# Altium schematic symbol library 自建库.SCHLIB: 110 symbols
Pins are listed as number, name and electrical type; pins without a type are passive.

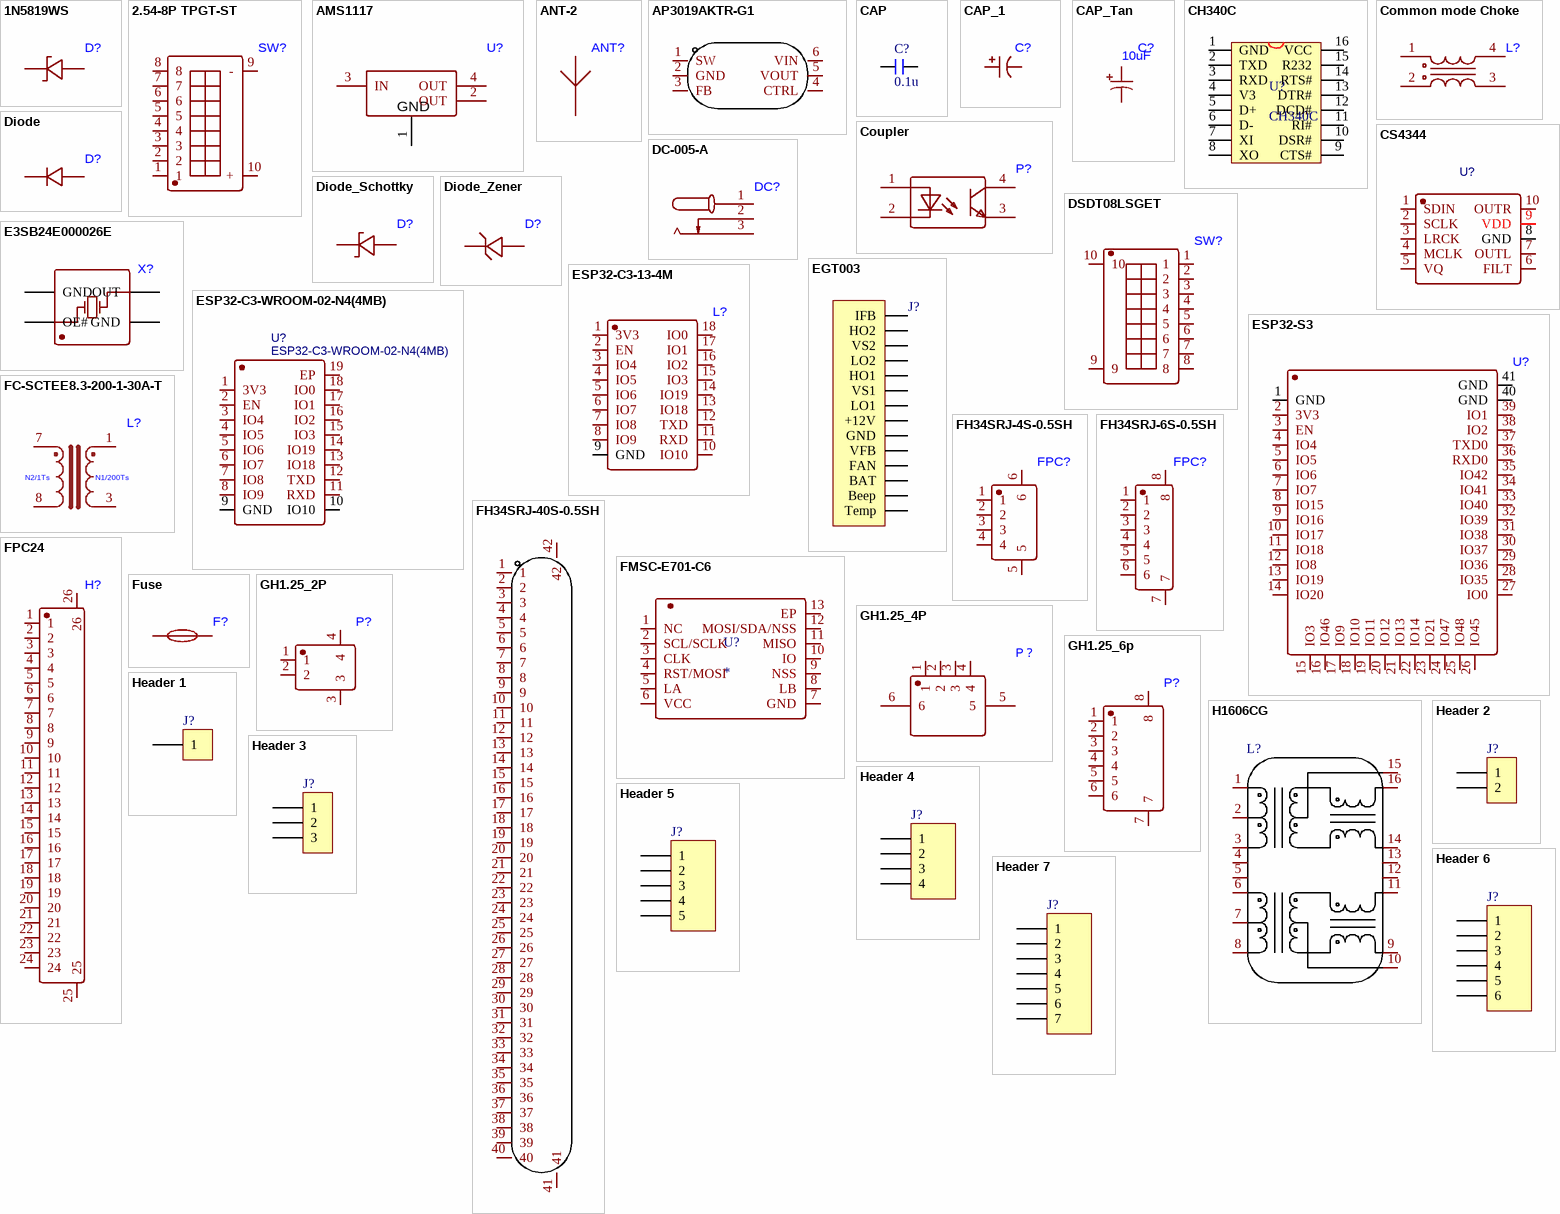
[diagram p0: symbols 1N5819WS to Header 7]

## 1N5819WS
designator D?
肖特基二极管; Part_number: 1N5819WS; 短线: 负极; Brand: *
footprint SOD-323_L1.8-W1.3-LS2.5-RD
footprint DO-214AC_L4.3-W2.7-LS5.2-RD
footprint SOD-123_L2.7-W1.6-LS3.7-RD-1
pins: 1 C, 2 A

## 2.54-8P TPGT-ST
designator SW?
8位三态拨码开关，C6709513; Part_number: 2.54-8P TPGT-ST; Brand: *
footprint SW-SMD_10P-L21.8-W7.0-P2.54-LS9.8
pins: 1, 2, 3, 4, 5, 6, 7, 8, 9 -, 10 +

## AMS1117
designator U?
稳压管; Part_number: *; Brand: *
footprint SOT-223-3_L6.5-W3.4-P2.30-LS7.0-BR
pins: 1 GND, 2 OUT, 3 IN, 4 OUT

## ANT-2
designator ANT?
陶瓷贴片天线; Part_number: *; Brand: *
footprint FP-ANT016008LCS2442MA2_SMT_ANT-0
footprint UHF-Ant (超高频天线)
pins: 1, 2

## AP3019AKTR-G1
designator U?  (value not drawn)
LED驱动; Part_number: *; Brand: *
3D model SOT-23-6_L2.9-W1.6-H1.5-LS2.8-P0.95
footprint SOT-23-6_L2.9-W1.6-P0.95-LS2.8-BR
pins: 1 SW, 2 GND, 3 FB, 4 CTRL, 5 VOUT, 6 VIN

## CAP
designator C?, comment 0.1u
贴片电容/安规电容; Part_number: *; Brand: *
footprint C0201
footprint C0402
footprint C0603
footprint C0805
footprint C1206
footprint C1210 (3225)
footprint C2220 (5750)
footprint CAP-TH_L18.0-W8.5-P15.00-D0.8
pins: 1, 2

## CAP_1
designator C?
固态电容/电解电容; Part_number: *
footprint CAP-TH_BD8.0-P3.50-D0.6-FD
footprint CAP-TH_BD6.3-P16-D1.2 (06A6,560u)
footprint CAP-TH_BD10.0-P5.00-D0.6-FD
footprint CAP-SMD_BD6.3-L6.6-W6.6-FD
footprint CAP-TH_BD22.0-P10.00-D2.3-FD
footprint CAP-TH_BD18.0-P7.50-D0.8-FD
pins: 1, 2

## CAP_Tan
designator C?, comment 10uF
钽电容; 10uF-0603: C962635; Part_number: *
footprint Tan0603 (C962635-1608)
pins: 1, 2

## CH340C
designator U?
UART; Part_number: *
footprint SO-16
pins: 1 GND, 2 TXD, 3 RXD, 4 V3, 5 D+, 6 D-, 7 XI, 8 XO, 9 CTS#, 10 DSR#, 11 RI#, 12 DCD#, 13 DTR#, 14 RTS#, 15 R232, 16 VCC

## Common mode Choke
designator L?
共模滤波器; Part_number: ACM12V-701-2PL-TL00
footprint FILTER-SMD_4P-L7.0-W6.0-TL_ACM70V
footprint CMSMD (744237701焊盘)
footprint FILTER-SMD_4P-L12.0-W11.0-TL (共模滤波器)
footprint FILTER-TH_4P-L17.0-W12.0-P7.00-D0.6-S8.00-1
pins: 1, 2, 3, 4

## Coupler
designator P?
光耦; Part_number: *; Brand: *
footprint SOP-4_L6.5-W4.6-P2.54-LS10.2-TL
pins: 1, 2, 3, 4

## CS4344
designator U?
CS4344/MS4344; Part_number: *
footprint TSSOP-10_L3.0-W3.0-P0.50-LS4.9-BL
pins: 1 SDIN, 2 SCLK, 3 LRCK, 4 MCLK, 5 VQ, 6 FILT, 7 OUTL, 8 GND, 9 VDD, 10 OUTR

## DC-005-A
designator DC?
DC电源座; Part_number: *
footprint DC-IN-TH_DC-5520-1
pins: 1, 2, 3

## Diode
designator D?
Diode; Part_number: *
footprint SOD-323_L1.8-W1.3-LS2.5-RD
footprint SOD-123_L2.7-W1.6-LS3.7-RD-1
footprint DO-214AC_L4.3-W2.7-LS5.2-RD
footprint TO-220-2L_L10.2-W4.6-P5.08-L
pins: 1 -, 2 +

## Diode_Schottky
designator D?
肖特基二极管; Part_number: *; Brand: *
footprint SOD-323_L1.8-W1.3-LS2.5-RD
footprint DO-214AC_L4.3-W2.7-LS5.2-RD
footprint SOD-123_L2.7-W1.6-LS3.7-RD-1
footprint SOD128
pins: 1 C, 2 A

## Diode_Zener
designator D?
稳压二极管（齐纳二极管）; Part_number: *; Brand: *
footprint SOD-323_L1.8-W1.3-LS2.5-RD
footprint SOD-123_L2.7-W1.6-LS3.7-RD-1
footprint SOD-523_L1.2-W0.8-LS1.6-BI
footprint DO-214AA_L4.4-W3.6-LS5.3-RD
pins: 1 K, 2 A

## DSDT08LSGET
designator SW?
8位三态拨码开关，C91271; Part_number: *
footprint SW-SMD_10P-L21.8-W7.0-P2.54-LS9.8
pins: 1, 2, 3, 4, 5, 6, 7, 8, 9, 10

## E3SB24E000026E
designator X?
24MHz贴片晶振，无源晶振; Part_number: *
footprint OSC-L3.2-W2.5-BL
pins: 1 OE#, 2 GND, 3 OUT, 4 GND

## EGT003
designator J?, comment HDR-1X14  (value not drawn)
Header, 14-Pin; Brand: *; Part_number: *
footprint HDR1X14 (Connector; Header; 9 Position)
footprint HDR2.54-Y-LI-14P (圆孔排母，14脚)
pins: 1 Temp, 2 Beep, 3 BAT, 4 FAN, 5 VFB, 6 GND, 7 +12V, 8 LO1, 9 VS1, 10 HO1, 11 LO2, 12 VS2, 13 HO2, 14 IFB

## ESP32-C3-13-4M
designator L?
ESP32-C3; Part_number: *
footprint ESP-C3-13-4M-SMD
pins: 1 3V3, 2 EN, 3 IO4, 4 IO5, 5 IO6, 6 IO7, 7 IO8, 8 IO9, 9 GND, 10 IO10, 11 RXD, 12 TXD, 13 IO18, 14 IO19, 15 IO3, 16 IO2, 17 IO1, 18 IO0

## ESP32-C3-WROOM-02-N4(4MB)
designator U?
Part_number: *
footprint ESP32-C3-WROOM-02-N4-4MB
pins: 1 3V3, 2 EN, 3 IO4, 4 IO5, 5 IO6, 6 IO7, 7 IO8, 8 IO9, 9 GND, 10 IO10, 11 RXD, 12 TXD, 13 IO18, 14 IO19, 15 IO3, 16 IO2, 17 IO1, 18 IO0, 19 EP

## ESP32-S3
designator U?
ESP32-S3-WROOM-1; Part_number: *
footprint ESP32-S3-WROOM-1
footprint ESP32-S3-WROOM-1U
pins: 1 GND, 2 3V3, 3 EN, 4 IO4, 5 IO5, 6 IO6, 7 IO7, 8 IO15, 9 IO16, 10 IO17, 11 IO18, 12 IO8, 13 IO19, 14 IO20, 15 IO3, 16 IO46, 17 IO9, 18 IO10, 19 IO11, 20 IO12, 21 IO13, 22 IO14, 23 IO21, 24 IO47, 25 IO48, 26 IO45, 27 IO0, 28 IO35, 29 IO36, 30 IO37, 31 IO38, 32 IO39, 33 IO40, 34 IO41, 35 IO42, 36 RXD0, 37 TXD0, 38 IO2, 39 IO1, 40 GND, 41 GND

## FC-SCTEE8.3-200-1-30A-T
designator L?
交流互感器,30A,1:200; Part_number: *; Brand: *
footprint XFMR-SMD_FC-SCTEE8.3-200-1-30A-T
pins: 1, 3, 7, 8
text: N2/1Ts; N1/200Ts

## FH34SRJ-4S-0.5SH
designator FPC?
4pin-FPC接口; Part_number: *
footprint FPC-SMD_4P_FH19C-4S-0.5SH
pins: 1, 2, 3, 4, 5, 6

## FH34SRJ-6S-0.5SH
designator FPC?
6pin-FPC接口; Part_number: *
footprint FFC-SMD_6P-P0.50_FH34SRJ-6S-0.5SH
pins: 1, 2, 3, 4, 5, 6, 7, 8

## FH34SRJ-40S-0.5SH
designator FPC?, comment 541044031  (value not drawn)
40pin-FPC接口; Part_number: *
3D model FPC-SMD_40P-P0.50_LSSJ-H2.0-40P
footprint FPC-SMD_40P-P0.50_L3.8-W22.0
pins: 1, 2, 3, 4, 5, 6, 7, 8, 9, 10, 11, 12, 13, 14, 15, 16, 17, 18, 19, 20, 21, 22, 23, 24, 25, 26, 27, 28, 29, 30, 31, 32, 33, 34, 35, 36, 37, 38, 39, 40, 41, 42

## FMSC-E701-C6
designator U?
复旦微NFC芯片; Part_number: *
footprint DFN-12_L3.0-W3.0-P0.45-BL-EP2.5
pins: 1 NC, 2 SCL/SCLK, 3 CLK, 4 RST/MOSI, 5 LA, 6 VCC, 7 GND, 8 LB, 9 NSS, 10 IO, 11 MISO, 12 MOSI/SDA/NSS, 13 EP

## FPC24
designator H?
0.5mm，24Pin; 0.5MM: 下接触; Part_number: *
footprint FPC24
pins: 1, 2, 3, 4, 5, 6, 7, 8, 9, 10, 11, 12, 13, 14, 15, 16, 17, 18, 19, 20, 21, 22, 23, 24, 25, 26

## Fuse
designator F?
一次性保险丝; Part_number: *
footprint FUSE-SMD_L10.3-W3.2
footprint FUSE-TH_L8.5-W4.0-P5.08-D0.6
pins: 1, 2

## GH1.25_2P
designator P?
GH1.25接口,2pin; Part_number: *
footprint CONN-SMD_A1257WR-S-2P
pins: 1, 2, 3, 4

## GH1.25_4P
designator P？
XH连接器2.54_4pin卧式; Part_number: *
footprint CONN-SMD_2.54-4P-WT (XH2.54_卧贴)
footprint CONN-SMD_A1257WR-S-4P (GH1.25-4pin卧贴)
footprint CONN-SMD_A1257WV-S-4P (GH1.25-4pin立贴)
pins: 1, 2, 3, 4, 5, 6

## GH1.25_6p
designator P?
GH1.25接口,6pin; Part_number: *
footprint CONN-SMD_A1257WV-S-6P
pins: 1, 2, 3, 4, 5, 6, 7, 8

## H1606CG
designator L?
网络变压器; Part_number: *
footprint SMD-16_L12.7-W7.0-P1.27-LS9.5-BL
3D model SMD-16_L12.7-W7.0-H5.7-P1.27-LS9.5-BL
pins: 1, 2, 3, 4, 5, 6, 7, 8, 9, 10, 11, 12, 13, 14, 15, 16

## Header 1
designator J?
Header, 1-Pin; Part_number: *
footprint HDR1X1 (Connector; Header; 2 Position)
signal-integrity model Connector
footprint MHDR1X1 (Connector; Header; 2 Position)
pins: 1

## Header 2
designator J?
Header, 2-Pin; Part_number: *
footprint MHDR1X2 (Connector; Header; 2 Position)
signal-integrity model Connector
footprint HDR1X2 (Connector; Header; 2 Position)
pins: 1, 2

## Header 3
designator J?
Header, 3-Pin; Part_number: *
footprint HDR1X3 (Connector; Header; 3 Position)
signal-integrity model Connector
footprint MHDR1X3 (Connector; Header; 3 Position)
pins: 1, 2, 3

## Header 4
designator J?
Header, 4-Pin; Part_number: *
footprint HDR1X4 (Connector; Header; 4 Position)
signal-integrity model Connector
footprint MHDR1X4 (Connector; Header; 4 Position)
pins: 1, 2, 3, 4

## Header 5
designator J?
Header, 5-Pin; Part_number: *
footprint HDR1X5 (Connector; Header; 5 Position)
signal-integrity model Connector
footprint MHDR1X5 (Connector; Header; 5 Position)
pins: 1, 2, 3, 4, 5

## Header 6
designator J?
Header, 6-Pin; Part_number: *
footprint HDR1X6 (Connector; Header; 6 Position)
signal-integrity model Connector
footprint MX 1.25-WS-6P (长：12.65mm，宽：4.2mm，高：3.4mm)
pins: 1, 2, 3, 4, 5, 6

## Header 7
designator J?
Header, 7-Pin; Part_number: *
footprint HDR1X7 (Connector; Header; 7 Position)
signal-integrity model Connector
pins: 1, 2, 3, 4, 5, 6, 7

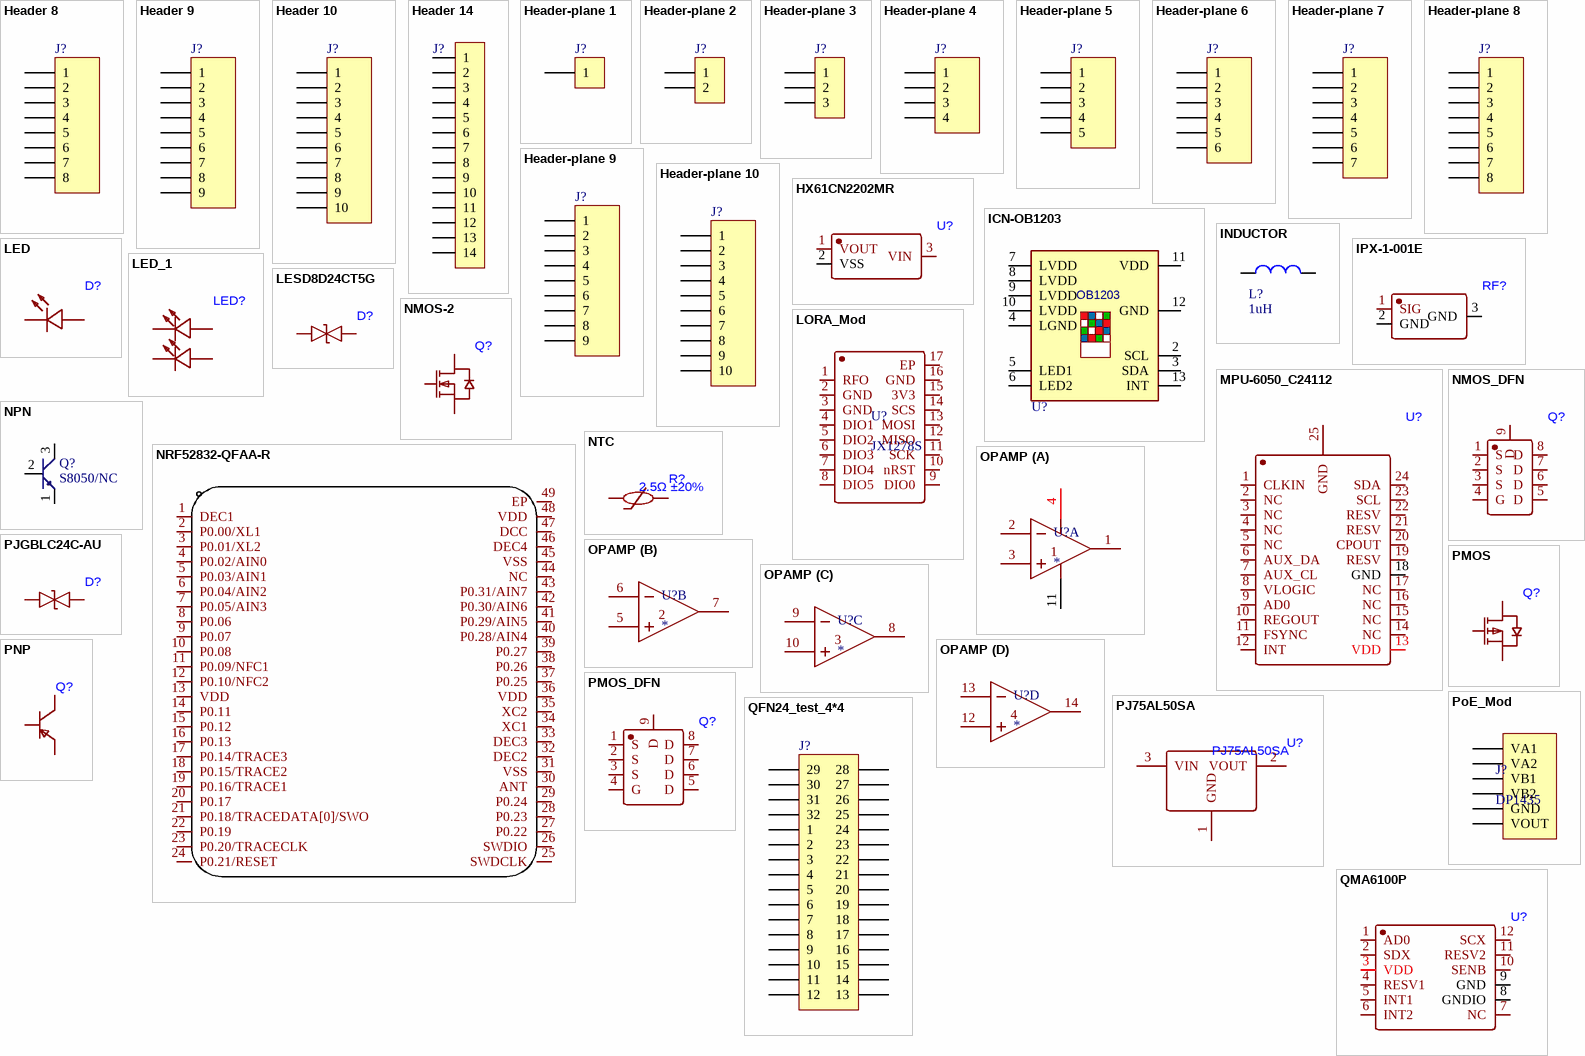
[diagram p1: symbols Header 8 to QMA6100P]

## Header 8
designator J?
Header, 8-Pin; Part_number: *
footprint HDR1X8 (Connector; Header; 8 Position)
signal-integrity model Connector
pins: 1, 2, 3, 4, 5, 6, 7, 8

## Header 9
designator J?
Header, 9-Pin; Part_number: *
footprint HDR1X9 (Connector; Header; 9 Position)
signal-integrity model Connector
pins: 1, 2, 3, 4, 5, 6, 7, 8, 9

## Header 10
designator J?
Header, 10-Pin; Part_number: *
footprint HDR1X10 (Connector; Header; 10 Position)
signal-integrity model Connector
pins: 1, 2, 3, 4, 5, 6, 7, 8, 9, 10

## Header 14
designator J?, comment HDR-1X14  (value not drawn)
Header, 14-Pin; Part_number: *
footprint HDR1X14 (Connector; Header; 9 Position)
footprint HDR2.54-Y-LI-14P (圆孔排母，14脚)
pins: 1, 2, 3, 4, 5, 6, 7, 8, 9, 10, 11, 12, 13, 14

## Header-plane 1
designator J?
触点, 1-Pin; Part_number: *
footprint HDR-plane-1X1 (Connector; Header; 2 Position)
signal-integrity model Connector
pins: 1

## Header-plane 2
designator J?
触点, 2-Pin; Part_number: *
footprint HDR-plane-1X2 (Connector; Header; 2 Position)
signal-integrity model Connector
pins: 1, 2

## Header-plane 3
designator J?
触点, 3-Pin; Part_number: *
footprint HDR-plane-1X3 (Connector; Header; 3 Position)
signal-integrity model Connector
pins: 1, 2, 3

## Header-plane 4
designator J?
触点, 4-Pin; Part_number: *
footprint HDR-plane-1X4 (Connector; Header; 4 Position)
signal-integrity model Connector
pins: 1, 2, 3, 4

## Header-plane 5
designator J?
触点, 5-Pin; Part_number: *
footprint HDR-plane-1X5 (Connector; Header; 5 Position)
signal-integrity model Connector
pins: 1, 2, 3, 4, 5

## Header-plane 6
designator J?
触点, 6-Pin; Part_number: *
footprint HDR-plane-1X6 (Connector; Header; 6 Position)
signal-integrity model Connector
pins: 1, 2, 3, 4, 5, 6

## Header-plane 7
designator J?
触点, 7-Pin; Part_number: *
footprint HDR-plane-1X7 (Connector; Header; 7 Position)
signal-integrity model Connector
pins: 1, 2, 3, 4, 5, 6, 7

## Header-plane 8
designator J?
触点, 8-Pin; Part_number: *
footprint HDR-plane-1X8 (Connector; Header; 8 Position)
signal-integrity model Connector
pins: 1, 2, 3, 4, 5, 6, 7, 8

## Header-plane 9
designator J?
触点, 9-Pin; Part_number: *
footprint HDR-plane-1X9 (Connector; Header; 9 Position)
signal-integrity model Connector
pins: 1, 2, 3, 4, 5, 6, 7, 8, 9

## Header-plane 10
designator J?
触点, 10-Pin; Part_number: *
footprint HDR-plane-1X10 (Connector; Header; 10 Position)
signal-integrity model Connector
pins: 1, 2, 3, 4, 5, 6, 7, 8, 9, 10

## HX61CN2202MR
designator U?
低电压监测器; Part_number: *
footprint SOT-23-3_L2.9-W1.3-P1.90-LS2.4-BR
pins: 1 VOUT, 2 VSS, 3 VIN

## ICN-OB1203
designator U?  (value not drawn)
OB1203; Part_number: *
footprint OB1203 14-OSIP (14-OSIP 2X4.2X1.2mm)
footprint LGA-14_L4.2-W2.0-P0.50-TL
footprint OB1203 14-OSIP - duplicate (14-OSIP 2X4.2X1.2mm)
pins: 2 SCL, 3 SDA, 4 LGND, 5 LED1, 6 LED2, 7 LVDD, 8 LVDD, 9 LVDD, 10 LVDD, 11 VDD, 12 GND, 13 INT

## INDUCTOR
designator L?, comment 1uH
电感; 150uH-0806: C222624; 4.7uH-0603: C494717; 47uH-0603: C223165; Part_number: *
footprint L0402 (1005)
footprint L0806
footprint L0805 (2012)
footprint L1206 (3216)
footprint L0603 (C494717-1608)
footprint IND-SMD_L3.0-W3.0
footprint IND-SMD_L4.0-W4.0
footprint IND-SMD_L11.5-W10.0_FXL1040
footprint IND-SMD_L7.1-W6.6
footprint IND-SMD_L13.45-W12.6
footprint L1008
footprint IND-TH_BD10.5-P5.00-D0.6
pins: 1, 2

## IPX-1-001E
designator RF?
IPX天线座; Part_number: *
footprint IPEX-SMD_BWIPX-1-001E
pins: 1 SIG, 2 GND, 3 GND

## LED
designator D?
发光二极管（单色）; Part_number: *
footprint LED0402
footprint LED0603
footprint LED0805
footprint LED1206
pins: 1 K, 2 A

## LED_1
designator LED?
双色LED; Part_number: *
footprint LED4P-L1.6-W1.5-BR-1
pins: 1 A, 2 C, 3 C, 4 A

## LESD8D24CT5G
designator D?
双向ESD保护管，24V TVS
footprint SOD-523_L1.2-W0.8-LS1.6-BI
footprint SOD-882_L1.0-W0.6-BI
footprint SOD-323_L1.8-W1.3-LS2.5-RD
pins: 1, 2

## LORA_Mod
designator U?, comment JX1278S
LORA模组; Part_number: *
footprint LORA_MOD (Lora模块)
pins: 1 RFO, 2 GND, 3 GND, 4 DIO1, 5 DIO2, 6 DIO3, 7 DIO4, 8 DIO5, 9 DIO0, 10 nRST, 11 SCK, 12 MISO, 13 MOSI, 14 SCS, 15 3V3, 16 GND, 17 EP

## MPU-6050_C24112
designator U?
MPU-6050加速度传感器; Part_number: *
footprint QFN-24_L4.0-W4.0-P0.50-BL-EP2.7
pins: 1 CLKIN, 2 NC, 3 NC, 4 NC, 5 NC, 6 AUX_DA, 7 AUX_CL, 8 VLOGIC, 9 AD0, 10 REGOUT, 11 FSYNC, 12 INT, 13 VDD, 14 NC, 15 NC, 16 NC, 17 NC, 18 GND, 19 RESV, 20 CPOUT, 21 RESV, 22 RESV, 23 SCL, 24 SDA, 25 GND

## NMOS-2
designator Q?
NMOS; Part_number: *
footprint SOT-23-3_L2.9-W1.3-P1.90-LS2.4-BR
footprint SOT-523_L1.6-W0.8-P1.00-LS1.6-BR
footprint SOT-323_L2.0-W1.3-P1.30-LS2.1-BR
footprint TO-263-2_L10.2-W8.9-P5.08-LS15.0-BR-1
footprint TO-247AC-3_L15.8-W5.0-P5.46-L
pins: 1 G, 2 S, 3 D

## NMOS_DFN
designator Q?
NMOS,30V 30A,23W; Part_number: *
footprint DFN-8_L3.0-W3.0-P0.65-BL
footprint PDFN3.3X3.3-8_L3.1-W3.2-P0.65-LS3.4-BL
pins: 1 S, 2 S, 3 S, 4 G, 5 D, 6 D, 7 D, 8 D, 9 D

## NPN
designator Q?, comment S8050/NC
三极管NPN; Part_number: *
footprint SOT-23-3_L2.9-W1.3-P1.90-LS2.4-BR
pins: 1 E, 2 B, 3 C

## NRF52832-QFAA-R
designator U?  (value not drawn)
蓝牙模块; Part_number: *
footprint QFN-48_L6.0-W6.0-P0.40-TL-EP4.6
3D model QFN-48_L6.0-W6.0-H0.9-P0.40
pins: 1 DEC1, 2 P0.00/XL1, 3 P0.01/XL2, 4 P0.02/AIN0, 5 P0.03/AIN1, 6 P0.04/AIN2, 7 P0.05/AIN3, 8 P0.06, 9 P0.07, 10 P0.08, 11 P0.09/NFC1, 12 P0.10/NFC2, 13 VDD, 14 P0.11, 15 P0.12, 16 P0.13, 17 P0.14/TRACE3, 18 P0.15/TRACE2, 19 P0.16/TRACE1, 20 P0.17, 21 P0.18/TRACEDATA[0]/SWO, 22 P0.19, 23 P0.20/TRACECLK, 24 P0.21/RESET, 25 SWDCLK, 26 SWDIO, 27 P0.22, 28 P0.23, 29 P0.24, 30 ANT, 31 VSS, 32 DEC2, 33 DEC3, 34 XC1, 35 XC2, 36 VDD, 37 P0.25, 38 P0.26, 39 P0.27, 40 P0.28/AIN4, 41 P0.29/AIN5, 42 P0.30/AIN6, 43 P0.31/AIN7, 44 NC, 45 VSS, 46 DEC4, 47 DCC, 48 VDD, 49 EP

## NTC
designator R?, comment 2.5Ω ±20%
NTC热敏电阻; Part_number: *; Brand: *
footprint RES-TH_L12.5-W5.1-P7.50-D1.2-S2.20
pins: 1, 2

## OPAMP
designator U?
运放; Part_number: *; Brand: *
footprint SOIC-14_L8.7-W3.9-P1.27-LS6.0-BL
part A pins: 1 OUT1, 2 IN1-, 3 IN1+, 4 VCC, 11 GND
part B pins: 5 IN2+, 6 IN2-, 7 OUT2
part C pins: 8 OUT3, 9 IN3-, 10 IN3+
part D pins: 12 IN4+, 13 IN4-, 14 OUT4

## PJ75AL50SA
designator U?
5V,LDO,Vin36V,Vout5V,150mA; Part_number: *
footprint SOT-23-3_L2.9-W1.3-P1.90-LS2.4-BR
pins: 1 GND, 2 VOUT, 3 VIN

## PJGBLC24C-AU
designator D?
双向ESD保护管，24V TVS
footprint SOD-323_L1.8-W1.3-LS2.5-RD
pins: 1, 2

## PMOS
designator Q?
PMOS; Part_number: *
footprint SOT-23-3_L2.9-W1.3-P1.90-LS2.4-BR
pins: 1 G, 2 S, 3 D

## PMOS_DFN
designator Q?
PMOS_DFN-8; Part_number: *
footprint PDFN3.3X3.3-8_L3.1-W3.2-P0.65-LS3.4-BL
pins: 1 S, 2 S, 3 S, 4 G, 5 D, 6 D, 7 D, 8 D, 9 D

## PNP
designator Q?
PNP三极管; Part_number: *
footprint SOT-23-3_L2.9-W1.3-P1.90-LS2.4-BR
pins: 1 B, 2 E, 3 C

## PoE_Mod
designator J?, comment DP1435
PoE模组; Part_number: *
footprint PoE_Mod (PoE模块)
pins: 1 VA1, 2 VA2, 3 VB1, 4 VB2, 5 GND, 6 VOUT

## QFN24_test_4*4
designator J?
双排直插，测试底座（带板）; Part_number: *
footprint CNV_QFN24_DIP (Connector; Header; 10 Position)
footprint CNV_QFN24_DIP - duplicate (Connector; Header; 10 Position)
pins: 1, 2, 3, 4, 5, 6, 7, 8, 9, 10, 11, 12, 13, 14, 15, 16, 17, 18, 19, 20, 21, 22, 23, 24, 25, 26, 27, 28, 29, 30, 31, 32

## QMA6100P
designator U?
C2887190,陀螺仪; Part_number: *
footprint LGA-12_L2.0-W2.0-P0.50-TL_QMA6100
pins: 1 AD0, 2 SDX, 3 VDD, 4 RESV1, 5 INT1, 6 INT2, 7 NC, 8 GNDIO, 9 GND, 10 SENB, 11 RESV2, 12 SCX

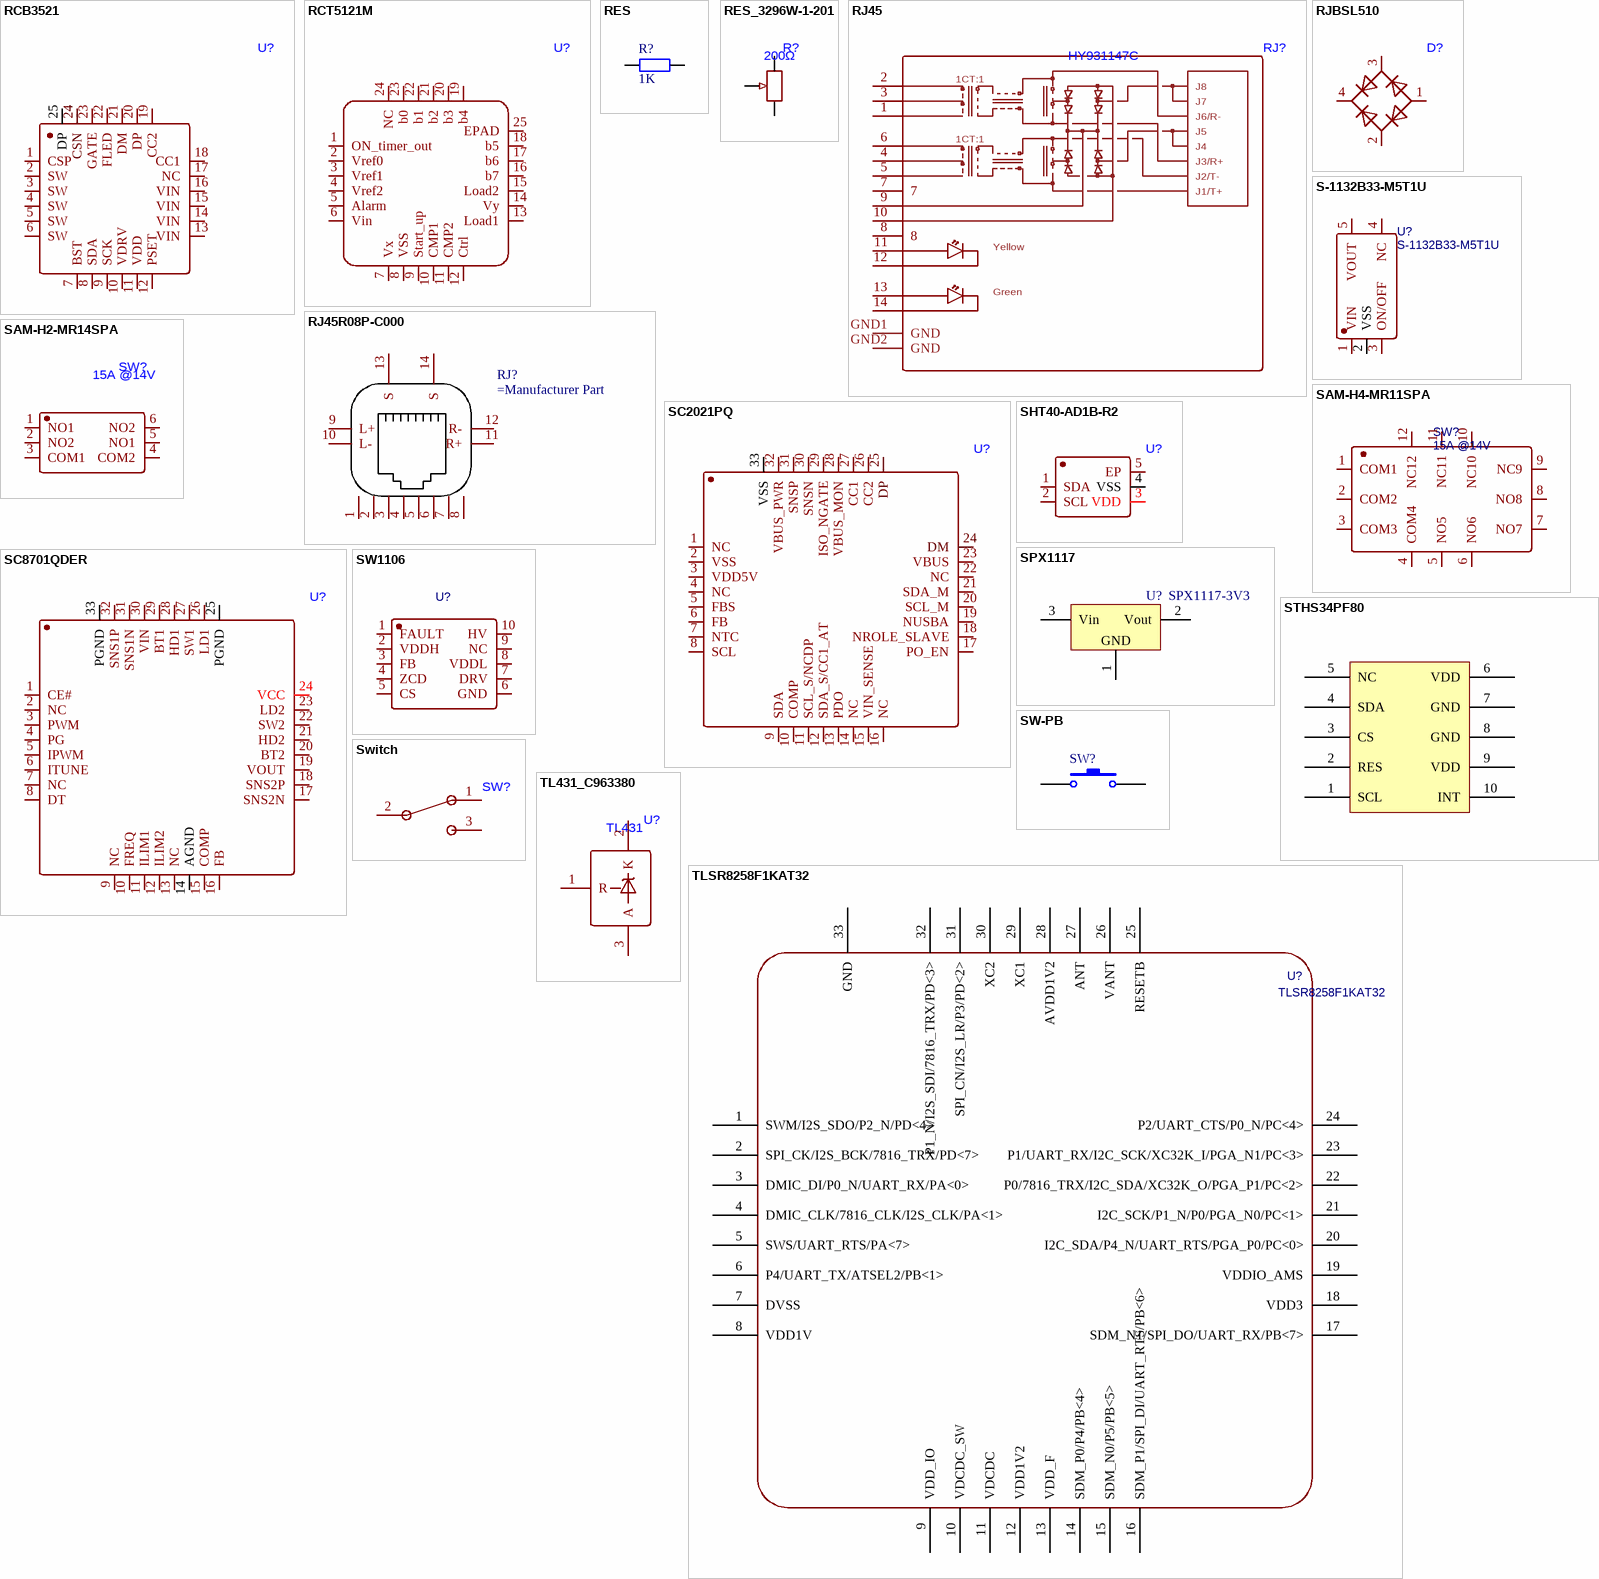
[diagram p2: symbols RCB3521 to TLSR8258F1KAT32]

## RCB3521
designator U?
协议芯片，内部同步降压变换器，RCB3521; Part_number: RCB3521
footprint QFN-24_L4.0-W4.0-P0.50-BL-EP2.7
pins: 1 CSP, 2 SW, 3 SW, 4 SW, 5 SW, 6 SW, 7 BST, 8 SDA, 9 SCK, 10 VDRV, 11 VDD, 12 PSET, 13 VIN, 14 VIN, 15 VIN, 16 VIN, 17 NC, 18 CC1, 19 CC2, 20 DP, 21 DM, 22 FLED, 23 GATE, 24 CSN, 25 DP

## RCT5121M
designator U?
越禾自研芯片; Part_number: *
footprint QFN-24_L4.0-W4.0-P0.50-BL-EP2.7
pins: 1 ON_timer_out, 2 Vref0, 3 Vref1, 4 Vref2, 5 Alarm, 6 Vin, 7 Vx, 8 VSS, 9 Start_up, 10 CMP1, 11 CMP2, 12 Ctrl, 13 Load1, 14 Vy, 15 Load2, 16 b7, 17 b6, 18 b5, 19 b4, 20 b3, 21 b2, 22 b1, 23 b0, 24 NC, 25 EPAD

## RES
designator R?, comment 1K
贴片电阻; Part_number: *
footprint R0201
footprint R0402
footprint R0603
footprint R0805
footprint R1206
pins: 1, 2

## RES_3296W-1-201
designator R?, comment 200Ω
滑动变阻器，3296W; Part_number: *
footprint RES-ADJ-TH_3P-L9.5-W4.9-P2.50-L_3296W
pins: 1, 2, 3

## RJ45
designator RJ?, comment HY931147C
RJ45——PoE; Part_number: *
footprint RJ45-TH_HY931147C
pins: 1, 2, 3, 4, 5, 6, 7, 8, 9, 10, 11, 12, 13, 14, GND1 GND, GND2 GND
text: 1CT:1; J8; J7; J6/R-; J5; J4; J3/R+; J2/T-; J1/T+; Yellow; Green

## RJ45R08P-C000
designator RJ?
连接器类型:RJ插座;USOC代码:RJ45;端口数量:1;等级:-;安装方式:弯插;屏蔽:有;LED:有;工作温度范围:0℃~+70℃;; Part_number: *
footprint RJ45-TH_R-RJ45R08P-C000
3D model RJ45-TH_L16.3-W15.8-H13.1
pins: 1, 2, 3, 4, 5, 6, 7, 8, 9 L+, 10 L-, 11 R+, 12 R-, 13 S, 14 S

## RJBSL510
designator D?
整流桥，1KV，5A; Part_number: RJBSL510; Brand: CJ(江苏长电/长晶)
footprint DIO-BG-SMD_4P-L4.9-W4.0-P2.54-LS7.0-BR
pins: 1 -, 2 C1, 3 C2, 4 +

## S-1132B33-M5T1U
designator U?
3.3V电源芯片; Part_number: S-1132B33-M5T1U
footprint SOT-23-5_L3.0-W1.7-P0.95-LS2.8-TL
pins: 1 VIN, 2 VSS, 3 ON/OFF, 4 NC, 5 VOUT

## SAM-H2-MR14SPA
designator SW?, comment 15A @14V
双向开关; Part_number: *
pins: 1 NO1, 2 NO2, 3 COM1, 4 COM2, 5 NO1, 6 NO2

## SAM-H4-MR11SPA
designator SW?, comment 15A @14V
四向开关; Part_number: *
pins: 1 COM1, 2 COM2, 3 COM3, 4 COM4, 5 NO5, 6 NO6, 7 NO7, 8 NO8, 9 NC9, 10 NC10, 11 NC11, 12 NC12

## SC2021PQ
designator U?
南芯，协议芯片，SC2021PQ; Part_number: *
footprint SC8701 (QFN32-4*4)
pins: 1 NC, 2 VSS, 3 VDD5V, 4 NC, 5 FBS, 6 FB, 7 NTC, 8 SCL, 9 SDA, 10 COMP, 11 SCL_S/NCDP, 12 SDA_S/CC1_AT, 13 PDO, 14 NC, 15 VIN_SENSE, 16 NC, 17 PO_EN, 18 NROLE_SLAVE, 19 NUSBA, 20 SCL_M, 21 SDA_M, 22 NC, 23 VBUS, 24 DM, 25 DP, 26 CC2, 27 CC1, 28 VBUS_MON, 29 ISO_NGATE, 30 SNSN, 31 SNSP, 32 VBUS_PWR, 33 VSS

## SC8701QDER
designator U?
南芯，升降压芯片，SC8701QDER; Part_number: *
footprint SC8701 (QFN32-4*4)
pins: 1 CE#, 2 NC, 3 PWM, 4 PG, 5 IPWM, 6 ITUNE, 7 NC, 8 DT, 9 NC, 10 FREQ, 11 ILIM1, 12 ILIM2, 13 NC, 14 AGND, 15 COMP, 16 FB, 17 SNS2N, 18 SNS2P, 19 VOUT, 20 BT2, 21 HD2, 22 SW2, 23 LD2, 24 VCC, 25 PGND, 26 LD1, 27 SW1, 28 HD1, 29 BT1, 30 VIN, 31 SNS1N, 32 SNS1P, 33 PGND

## SHT40-AD1B-R2
designator U?
温湿度传感器; Part_number: *
footprint DFN-4_L1.5-W1.5-P0.8-TL-EP
pins: 1 SDA, 2 SCL, 3 VDD, 4 VSS, 5 EP

## SPX1117
designator U?, comment SPX1117-3V3
三端稳压芯片; Part_number: *
footprint SOT-223-3_L6.5-W3.4-P2.30-LS7.0-BR
pins: 1 GND, 2 Vout, 3 Vin

## STHS34PF80
designator U?
STHS34PF80人体传感器; Part_number: STHS34PF80
footprint STHS34PF80
pins: 1 SCL, 2 RES, 3 CS, 4 SDA, 5 NC, 6 VDD, 7 GND, 8 GND, 9 VDD, 10 INT

## SW1106
designator U?
SW1106,反激控制器,; Part_number: *
footprint TSSOP-10_L3.0-W3.0-P0.50-LS4.9-BL
pins: 1 FAULT, 2 VDDH, 3 FB, 4 ZCD, 5 CS, 6 GND, 7 DRV, 8 VDDL, 9 NC, 10 HV

## SW-PB
designator SW?
Switch; Part_number: *
footprint SW-L4.0-W2.9-LS5.0
pins: 1, 2

## Switch
designator SW?
双选滑动开关; Part_number: *
footprint SW-TH_SS-12D10L5 (滑动开关)
pins: 1, 2, 3

## TL431_C963380
designator U?, comment TL431
电压基准芯片,2.5V~36V,2.5V; Part_number: *
footprint SOT-23-3_L2.9-W1.3-P1.90-LS2.4-BR
pins: 1 R, 2 K, 3 A

## TLSR8258F1KAT32
designator U?
Part_number: *
footprint QFN-32_L5.0-W5.0-P0.50-TL-EP3.5
pins: 1 SWM/I2S_SDO/P2_N/PD<4>, 2 SPI_CK/I2S_BCK/7816_TRX/PD<7>, 3 DMIC_DI/P0_N/UART_RX/PA<0>, 4 DMIC_CLK/7816_CLK/I2S_CLK/PA<1>, 5 SWS/UART_RTS/PA<7>, 6 P4/UART_TX/ATSEL2/PB<1>, 7 DVSS, 8 VDD1V, 9 VDD_IO, 10 VDCDC_SW, 11 VDCDC, 12 VDD1V2, 13 VDD_F, 14 SDM_P0/P4/PB<4>, 15 SDM_N0/P5/PB<5>, 16 SDM_P1/SPI_DI/UART_RTS/PB<6> "SDM_P1/SPI_DI/UART_RTS/lc_comp_ain<6>/sar_aio<6>/PB<6>", 17 SDM_N1/SPI_DO/UART_RX/PB<7>, 18 VDD3, 19 VDDIO_AMS, 20 I2C_SDA/P4_N/UART_RTS/PGA_P0/PC<0>, 21 I2C_SCK/P1_N/P0/PGA_N0/PC<1>, 22 P0/7816_TRX/I2C_SDA/XC32K_O/PGA_P1/PC<2>, 23 P1/UART_RX/I2C_SCK/XC32K_I/PGA_N1/PC<3>, 24 P2/UART_CTS/P0_N/PC<4>, 25 RESETB, 26 VANT, 27 ANT, 28 AVDD1V2, 29 XC1, 30 XC2, 31 SPI_CN/I2S_LR/P3/PD<2>, 32 P1_N/I2S_SDI/7816_TRX/PD<3>, 33 GND

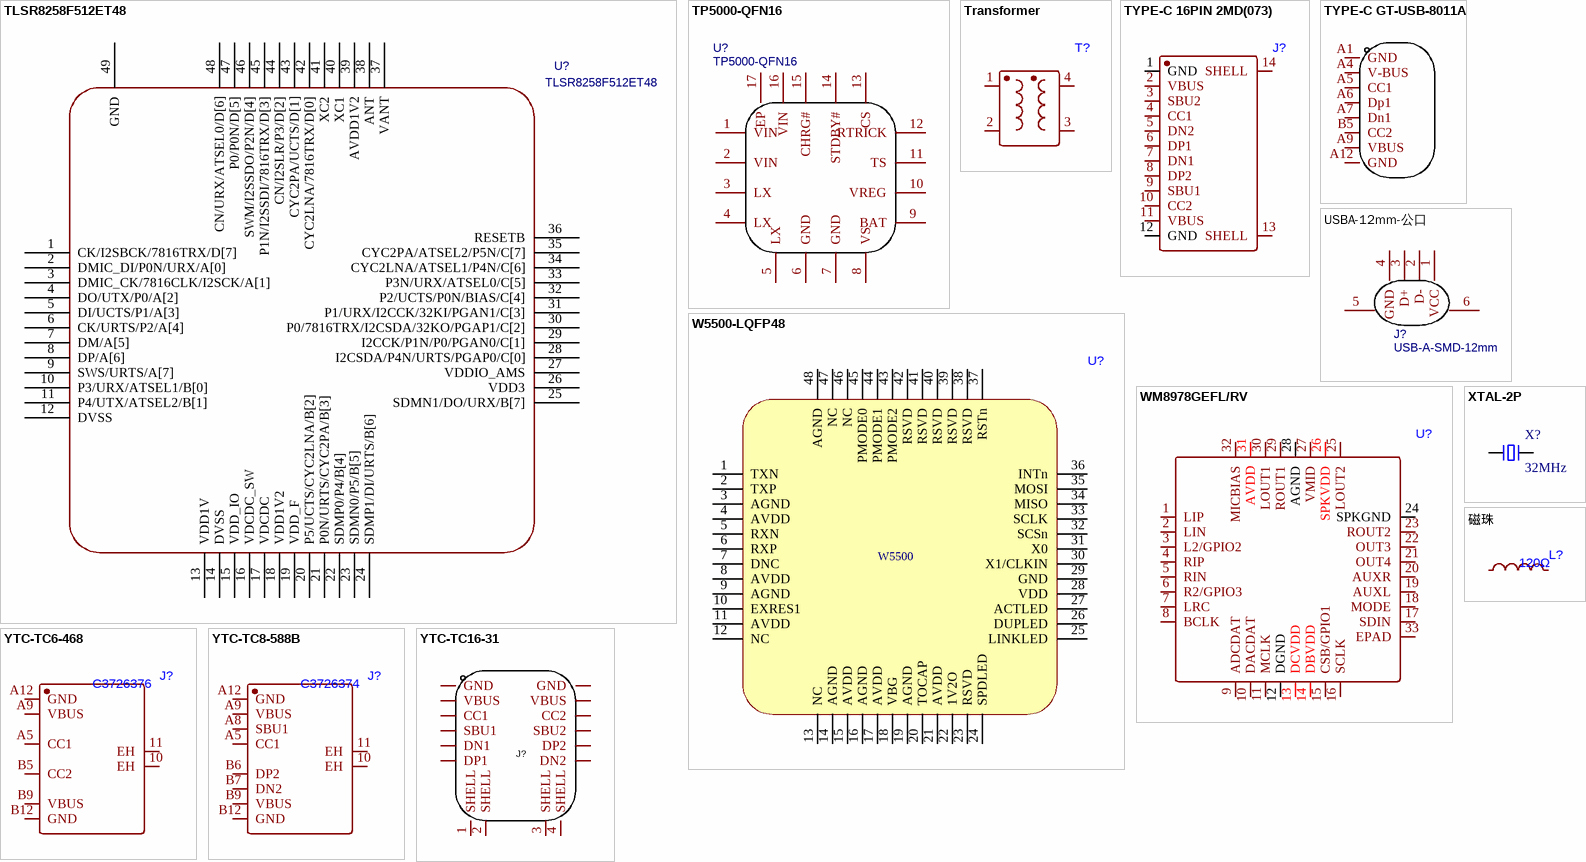
[diagram p3: symbols TLSR8258F512ET48 to 磁珠]

## TLSR8258F512ET48
designator U?
Part_number: *
footprint QFN-48_L7.0-W7.0-P0.50-BL-EP5.4
pins: 1 CK/I2SBCK/7816TRX/D[7], 2 DMIC_DI/P0N/URX/A[0], 3 DMIC_CK/7816CLK/I2SCK/A[1], 4 DO/UTX/P0/A[2], 5 DI/UCTS/P1/A[3], 6 CK/URTS/P2/A[4], 7 DM/A[5], 8 DP/A[6], 9 SWS/URTS/A[7], 10 P3/URX/ATSEL1/B[0], 11 P4/UTX/ATSEL2/B[1], 12 DVSS, 13 VDD1V, 14 DVSS, 15 VDD_IO, 16 VDCDC_SW, 17 VDCDC, 18 VDD1V2, 19 VDD_F, 20 P5/UCTS/CYC2LNA/B[2], 21 P0N/URTS/CYC2PA/B[3], 22 SDMP0/P4/B[4], 23 SDMN0/P5/B[5], 24 SDMP1/DI/URTS/B[6], 25 SDMN1/DO/URX/B[7], 26 VDD3, 27 VDDIO_AMS, 28 I2CSDA/P4N/URTS/PGAP0/C[0], 29 I2CCK/P1N/P0/PGAN0/C[1], 30 P0/7816TRX/I2CSDA/32KO/PGAP1/C[2], 31 P1/URX/I2CCK/32KI/PGAN1/C[3], 32 P2/UCTS/P0N/BIAS/C[4], 33 P3N/URX/ATSEL0/C[5], 34 CYC2LNA/ATSEL1/P4N/C[6], 35 CYC2PA/ATSEL2/P5N/C[7], 36 RESETB, 37 VANT, 38 ANT, 39 AVDD1V2, 40 XC1, 41 XC2, 42 CYC2LNA/7816TRX/D[0], 43 CYC2PA/UCTS/D[1], 44 CN/I2SLR/P3/D[2], 45 P1N/I2SSDI/7816TRX/D[3], 46 SWM/I2SSDO/P2N/D[4], 47 P0/P0N/D[5], 48 CN/URX/ATSEL0/D[6], 49 GND

## TP5000-QFN16
designator U?
充电管理; BOM_Supplier Part: C51699; Part_number: *
footprint QFN-16_L4.0-W4.0-P0.65-BL-EP2.2
pins: 1 VIN, 2 VIN, 3 LX, 4 LX, 5 LX, 6 GND, 7 GND, 8 VS, 9 BAT, 10 VREG, 11 TS, 12 RTRICK, 13 CS, 14 STDBY#, 15 CHRG#, 16 VIN, 17 EP

## Transformer
designator T?
变压器; Part_number: *; Brand: *
footprint TAN-PQ5035(4+6)
footprint TAN-PQ5035(4+6) -4 (2KW,29:4)
pins: 1, 2, 3, 4

## TYPE-C 16PIN 2MD(073)
designator J?
Type-C 母座，卧贴，C2765186; Part_number: *
footprint USB-C-SMD_TYPE-C-6PIN-2MD-073
pins: 1 GND, 2 VBUS, 3 SBU2, 4 CC1, 5 DN2, 6 DP1, 7 DN1, 8 DP2, 9 SBU1, 10 CC2, 11 VBUS, 12 GND, 13 SHELL, 14 SHELL

## TYPE-C GT-USB-8011A
designator J?, comment GT-USB-8011A  (value not drawn)
Type-C 公头 C3019722
footprint USB-TYPE-C-SMD_GT-USB-8011A
3D model USB-TYPE-C-SMD_GT-USB-8011A
pins: A1 GND, A4 V-BUS, A5 CC1, A6 Dp1, A7 Dn1, A9 VBUS, A12 GND, B5 CC2

## USBA-12mm-公口
designator J?, comment USB-A-SMD-12mm
USB-A_12mm; BOM_Supplier Part: C319178; Part_number: *
footprint USB-A-SMD-12mm
pins: 1 VCC, 2 D-, 3 D+, 4 GND, 5, 6

## W5500-LQFP48
designator U?
网络转换芯片; Part_number: *
footprint LQFP-48_L7.0-W7.0-P0.50-LS9.0-BL
pins: 1 TXN, 2 TXP, 3 AGND, 4 AVDD, 5 RXN, 6 RXP, 7 DNC, 8 AVDD, 9 AGND, 10 EXRES1, 11 AVDD, 12 NC, 13 NC, 14 AGND, 15 AVDD, 16 AGND, 17 AVDD, 18 VBG, 19 AGND, 20 TOCAP, 21 AVDD, 22 1V2O, 23 RSVD, 24 SPDLED, 25 LINKLED, 26 DUPLED, 27 ACTLED, 28 VDD, 29 GND, 30 X1/CLKIN, 31 X0, 32 SCSn, 33 SCLK, 34 MISO, 35 MOSI, 36 INTn, 37 RSTn, 38 RSVD, 39 RSVD, 40 RSVD, 41 RSVD, 42 RSVD, 43 PMODE2, 44 PMODE1, 45 PMODE0, 46 NC, 47 NC, 48 AGND
text: W5500

## WM8978GEFL/RV
designator U?
音频编译码器; Part_number: *
footprint QFN-32_L5.0-W5.0-P0.50-TL-EP3.5
pins: 1 LIP, 2 LIN, 3 L2/GPIO2, 4 RIP, 5 RIN, 6 R2/GPIO3, 7 LRC, 8 BCLK, 9 ADCDAT, 10 DACDAT, 11 MCLK, 12 DGND, 13 DCVDD, 14 DBVDD, 15 CSB/GPIO1, 16 SCLK, 17 SDIN, 18 MODE, 19 AUXL, 20 AUXR, 21 OUT4, 22 OUT3, 23 ROUT2, 24 SPKGND, 25 LOUT2, 26 SPKVDD, 27 VMID, 28 AGND, 29 ROUT1, 30 LOUT1, 31 AVDD, 32 MICBIAS, 33 EPAD

## XTAL-2P
designator X?, comment 32MHz
2脚无源脚晶振; BOM名称: 2脚无源脚晶振; Part_number: *
footprint OSC HC-49S
footprint OSC 455E-LI (3.6mm*7mm*9mm(长*宽*高)  脚距5mm)
footprint OSC 455E-WI (3.6mm*7mm*9mm(长*宽*高)  脚距5mm)
footprint OSC 3215-2P (3.2*1.5*0.6mm(长宽高))
footprint OSC-SMD_L5.0-W3.2
footprint OSC 6035-2P (6mm*3.5mm*1mm(长*宽*高))
footprint OSC 7050-2P (7mm*5mm*1.3mm(长*宽*高))
footprint OSC 8045-2P (8mm*4.5mm*1.8mm(长*宽*高))
footprint OSC-2x6-LI (脚距：1.6mm)
footprint OSC-2x6-WI-A (脚距：1.6mm)
footprint OSC-2x6-WI-B (脚距：1.6mm)
footprint OSC-2x6-WS (脚距：1.6mm)
footprint OSC-3x8-LI (脚距：2mm)
footprint OSC-3x8-WI-A (脚距：2mm)
footprint OSC-3x8-WI-B (脚距：2mm)
footprint OSC-3x8-WS (脚距：2mm)
footprint OSC-3x10-LI (脚距：2mm)
footprint OSC-3x10-WI-A (脚距：2mm)
footprint OSC-3x10-WI-B (脚距：2mm)
footprint OSC-3x10-WS (脚距：2mm)
footprint OSC HC-49SMD
footprint OSC HC-49U
footprint OSC UM-1
footprint OSC UM-5
pins: 1, 2

## YTC-TC6-468
designator J?, comment C3726376
Type-C 母座 立式 6P; Part_number: *
footprint USB-C-TH_TYPE-604-T3 (Type-c 母座立贴直插)
pins: 10 EH, 11 EH, A5 CC1, A9 VBUS, A12 GND, B5 CC2, B9 VBUS, B12 GND

## YTC-TC8-588B
designator J?, comment C3726374
Type-C 母座 立式 8P; Part_number: *; Brand: *
footprint USB-C-SMD_YTC-TC8-588B
pins: 10 EH, 11 EH, A5 CC1, A8 SBU1, A9 VBUS, A12 GND, B6 DP2, B7 DN2, B9 VBUS, B12 GND

## YTC-TC16-31
designator J?  (value not drawn)
Type-C 母座; Part_number: *
footprint USB-C-SMD_YIYUAN_YTC-TC16-31
footprint USB-C-SMD_TYPE-C-6PIN-2MD-073
pins: 1 SHELL, 2 SHELL, 3 SHELL, 4 SHELL, A1-B12 GND, A4-B9 VBUS, A5 CC1, A6 DP1, A7 DN1, A8 SBU1, B1-A12 GND, B4-A9 VBUS, B5 CC2, B6 DP2, B7 DN2, B8 SBU2

## 磁珠
designator L?, comment 120Ω
磁珠; Part_number: *; Brand: *
footprint L0805
pins: 1, 2